# EAGLE library part MIC5821B (library DL110)
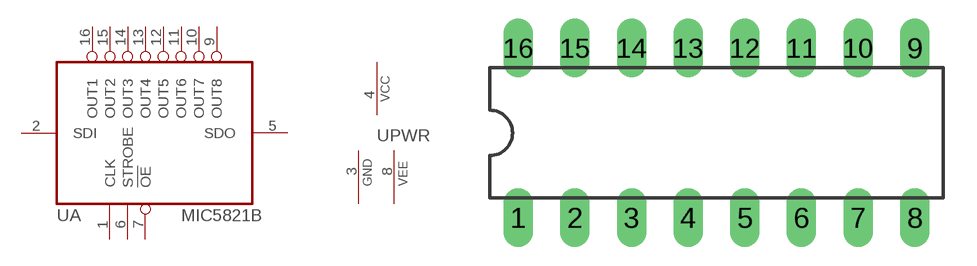
[diagram p0: symbol with the pads of DIL16; footprint DIL16]

Designator prefix U; gates A=MIC5821B PWR=PWRGNDVEE

## MIC5821BN  [DIL16]
1  A:CLK  in
2  A:SDI  in
3  PWR:GND  pwr
4  PWR:VCC  pwr
5  A:SDO  out
6  A:STROBE  in
7  A:!OE!  in
8  PWR:VEE  pwr
9  A:OUT8  oc
10  A:OUT7  oc
11  A:OUT6  oc
12  A:OUT5  oc
13  A:OUT4  oc
14  A:OUT3  oc
15  A:OUT2  oc
16  A:OUT1  oc

## Footprint DIL16 (pad centres in mm)
Dual In Line Package
drill 0.813 long: 1 -8.89,-3.81; 2 -6.35,-3.81; 3 -3.81,-3.81; 4 -1.27,-3.81; 5 1.27,-3.81; 6 3.81,-3.81; 7 6.35,-3.81; 8 8.89,-3.81; 9 8.89,3.81; 10 6.35,3.81; 11 3.81,3.81; 12 1.27,3.81; 13 -1.27,3.81; 14 -3.81,3.81; 15 -6.35,3.81; 16 -8.89,3.81